# EAGLE library part TPS27081 (library wedfestdress)
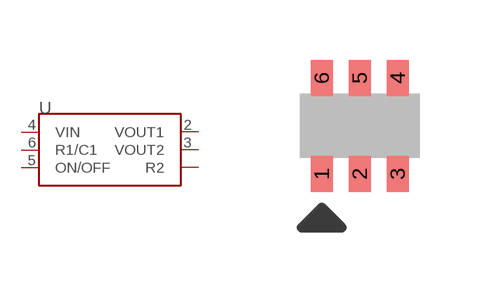
[diagram p3: symbol with the pads of SOT-23-6_GENERIC; footprint SOT-23-6_GENERIC]

Designator prefix U

## TPS27081 (COST_X1: 0.44; COST_X100: 0.2781; COST_X500: 0.2043; DESCRIPTION: Load switch, high side, 3A; DISPLAY: 3A; DISTRIBUTOR: Digikey; DIST_PART_NO: 296-34970-1-ND; MFG: TI; MFG_PART_NO: TPS27081ADDCR; PACKAGE: SOT-23-6)  [SOT-23-6_GENERIC]
1  R2
2  VOUT1
3  VOUT2
4  VIN
5  ON/OFF
6  R1/C1

## Footprint SOT-23-6_GENERIC (pad centres in mm)
smd 0.55 x 0.9: 1 -0.95,-1.2; 2 0,-1.2; 3 0.95,-1.2; 4 0.95,1.2; 5 0,1.2; 6 -0.95,1.2